# Altium integrated library Linear Technology Power Management Switching Regulator LT1074-LT8705.IntLib: 2252 symbols (part 104 of 148)
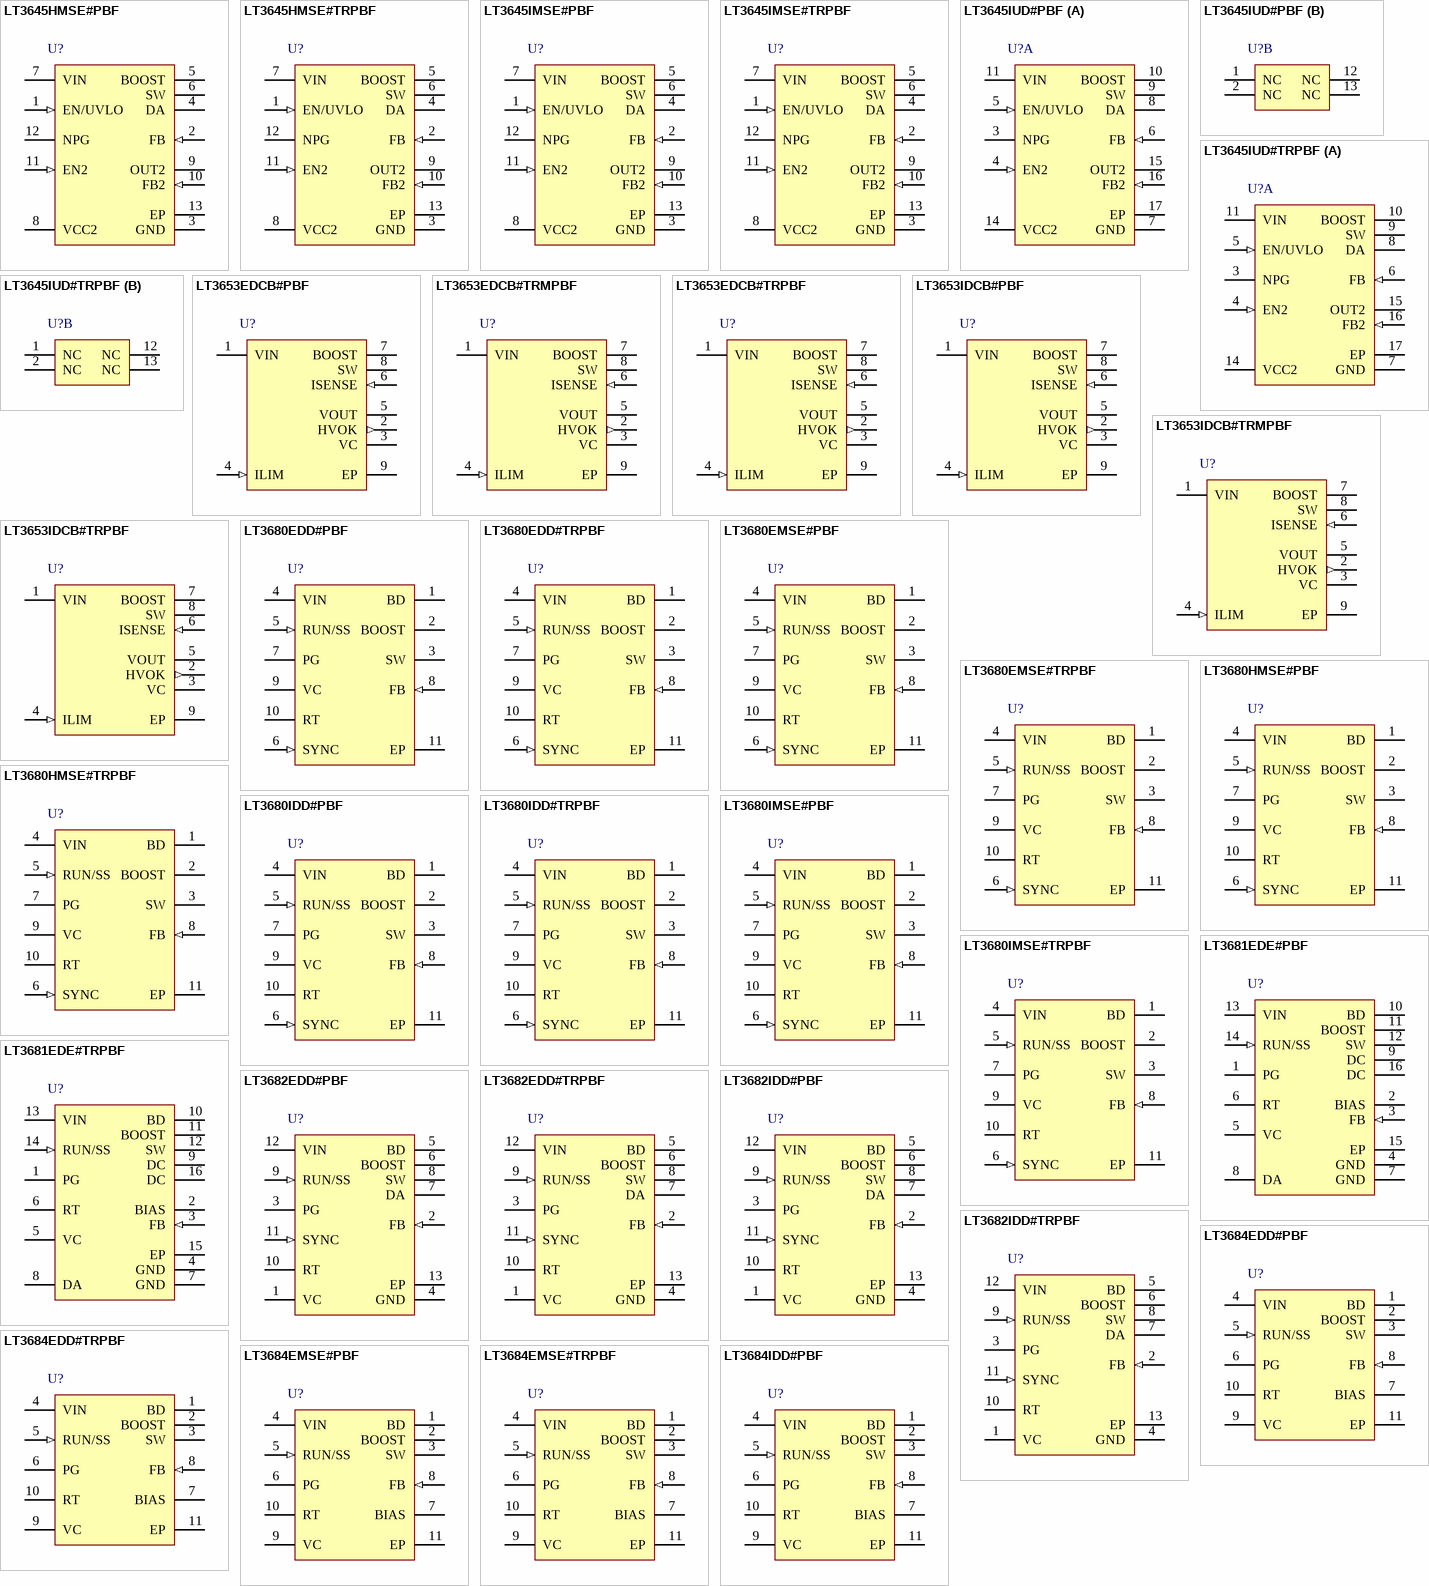
[diagram p174: symbols LT3645HMSE#PBF to LT3684IDD#PBF]

## LT3645IUD#TRPBF
designator U?
500 mA Step-Down Regulator and 200 mA LDO, 16-pin QFN (UD-16), -40 to 125 degC, Pb-Free, Tape and Reel; Manufacturer: Linear Technology; PartNumber: LT3645IUD#TRPBF; Number of Outputs: 2; Over Voltage Protection(V): 55; PackageVersion: Jun-10; PackageReference: UD-16; PackageDescription: 16-Pin Plastic QFN, Body 3 x 3 mm, Pitch 0.5 mm; Supplier 1: Digi-Key; Supplier Part Number 1: LT3645IUD#TRPBF-ND; Packing: Tape and Reel; RoHS: TRUE; Mounting Technology: Surface Mount; Code_JEDEC: MO-220; ComponentLink1Description: Manufacturer URL; ComponentLink1URL: http://www.linear.com/; ComponentLink2Description: Datasheet; ComponentLink2URL: http://cds.linear.com/docs/en/datasheet/3645f.pdf; ComponentLink3Description: Package Specification; ComponentLink3URL: http://cds.linear.com/docs/en/packaging/QFN_16_05-08-1691.pdf
footprint LT-UD-16_N (QFN, 16-Leads, Body 3x3mm, Pitch 0.5mm, Thermal Pad 1.45x1.45mm, IPC Medium Density)
footprint LT-UD-16_L (QFN, 16-Leads, Body 3x3mm, Pitch 0.5mm, Thermal Pad 1.45x1.45mm, IPC High Density)
footprint LT-UD-16_M (QFN, 16-Leads, Body 3x3mm, Pitch 0.5mm, Thermal Pad 1.45x1.45mm, IPC Low Density)
part A pins: 3 NPG (hiz) "The NPG pin is an open-collector output used to indicate that both buck and LDO output voltages are in regulation. The NPG pin pulls low when FB and FB2 both exceed 720mV.", 4 EN2 (in) "The EN2 pin is used to enable the linear regulator. Pull this pin above 1.6V to enable the LDO. Pull EN2 below 0.5V to disable the LDO.", 5 EN/UVLO (in) "The EN/UVLO pin is used to enable the buck switching regulator and the low dropout linear regulator (LDO). An accurate threshold of 1.23V allows the user to set the undervoltage lockout point with a simple resistor divider, (See Datasheet)", 6 FB (in) "The FB pin programs the buck output voltage. The LT3645 regulates the FB pin to 0.8V. The feedback resistor divider tap should be connected to this pin.", 7 GND (power) "The GND pin should be tied to a local ground plane below the LT3645 and the circuit components. Return the feedback dividers from FB and FB2 to this pin.", 8 DA "The DA pin senses the external catch diode current and prevents the buck regulator from switching if the sensed current is too high. Connect the anode of the external Schottky catch diode to this pin.", 9 SW (power) "The SW pin is the output of the internal buck power switch. Connect the inductor and the cathode of the external catch Schottky diode to this pin.", 10 BOOST "The BOOST pin provides a drive voltage to the internal bipolar NPN power switch. Tie a 0.1uF capacitor between the BOOST and SW pins.", 11 VIN (power) "The VIN pin supplies current to the LT3645’s internal circuitry, to the internal buck power switch, and to the LDO. The VIN pin must be locally bypassed.", 14 VCC2 (power) "The VCC2 pin supplies current to the linear regulator’s output device. The VCC2 pin is also the anode of an internal Schottky diode used to generate the BOOST voltage. The VCC2 pin must be tied to a voltage source greate(See Datasheet)", 15 OUT2 (power) "The OUT2 pin is the output of the LDO. Connect a capacitor of at least 0.47uF from this pin to ground. See Frequency Compensation (LDO) section for more details.", 16 FB2 (in) "The FB2 pin programs the LDO output voltage. The LT3645 regulates the FB2 pin to 0.797V. The feedback resistor divider tap should be connected to this pin.", 17 EP (power) "The GND pin should be tied to a local ground plane below the LT3645 and the circuit components. Return the feedback dividers from FB and FB2 to this pin. The exposed pad must be soldered to the PCB and electrically connected (See Datasheet)"
part B pins: 1 NC "No Connect Pins. Tie these to ground.", 2 NC "No Connect Pins. Tie these to ground.", 12 NC "No Connect Pins. Tie these to ground.", 13 NC "No Connect Pins. Tie these to ground."

## LT3653EDCB#PBF
designator U?
1.2 A, HV Input Regulator with Output Current Limit for Battery Charger Application, 8-pin SON (DCB-8), -40 to 125 degC, Pb-Free; Manufacturer: Linear Technology; PartNumber: LT3653EDCB#PBF; Number of Outputs: 1; Over Voltage Protection(V): 60; PackageVersion: Rev. A, 06/2010; PackageReference: DCB-8; PackageDescription: 8-Pin Plastic DFN, Body 2 x 3 mm, Pitch 0.45 mm; Supplier 1: Newark; Supplier Part Number 1: 78T4034; RoHS: TRUE; Mounting Technology: Surface Mount; ComponentLink1Description: Manufacturer URL; ComponentLink1URL: http://www.linear.com/; ComponentLink2Description: Datasheet; ComponentLink2URL: http://cds.linear.com/docs/en/datasheet/3653f.pdf; ComponentLink3Description: Package Specification; ComponentLink3URL: http://cds.linear.com/docs/en/packaging/DFN_8_05-08-1718.pdf
footprint LT-DCB-8_V (SON, 8-Leads, Body 3x2mm, Pitch 0.45mm, Thermal Pad 1.65x1.35mm)
pins: 1 VIN (power) "The VIN pin supplies current to the LT3653’s internal regulator and the internal power switch. Locally bypass this pin with a capacitor.", 2 HVOK (out) "The HVOK pin is a status pin which indicates that the internal bias rail is present and that an input undervoltage lockout fault, an overvoltage lockout fault or an over temperature fault are not present.", 3 VC "The VC pin is the output of the internal error amplifier and is internally compensated. The voltage on this pin controls the peak switch current. Connect this pin to the battery charger VC pin for battery tracking function.", 4 ILIM (in) "Connect a resistor to GND to program the output current limit of the regulator. See the ILIM Resistor section in Application Information.", 5 VOUT (power) "The VOUT pin is connected to the negative terminal of the internal current sense resistor of the output current limit circuit. Maximum VOUT voltage is regulated to 4.8V.", 6 ISENSE (in) "The ISENSE pin is the positive input to the internal current sense resistor of the output current limit circuit. The ISENSE pin is also the anode of the internal BOOST diode.", 7 BOOST "The BOOST pin provides a drive voltage, higher than the input voltage, to the internal power switch. The BOOST pin is internally connected to the cathode of the BOOST diode.", 8 SW (power) "The SW pin is the output of the internal power switch. Connect this pin to the inductor, catch diode and boost capacitor.", 9 EP (power) "Ground. The Exposed Pad must be soldered to the PCB and electrically connected to ground. Use a large ground plane and vias to optimize thermal performance."

## LT3653EDCB#TRMPBF
designator U?
1.2 A, HV Input Regulator with Output Current Limit for Battery Charger Application, 8-pin SON (DCB-8), -40 to 125 degC, Pb-Free, Mini Tape and Reel; Manufacturer: Linear Technology; PartNumber: LT3653EDCB#TRMPBF; Number of Outputs: 1; Over Voltage Protection(V): 60; PackageVersion: Rev. A, 06/2010; PackageReference: DCB-8; PackageDescription: 8-Pin Plastic DFN, Body 2 x 3 mm, Pitch 0.45 mm; Supplier 1: Digi-Key; Supplier Part Number 1: LT3653EDCB#TRMPBFTR-ND; Supplier 2: Digi-Key; Supplier Part Number 2: LT3653EDCB#TRMPBFCT-ND; Supplier 3: Digi-Key; Supplier Part Number 3: LT3653EDCB#TRMPBFDKR-ND; Packing: Mini Tape and Reel; RoHS: TRUE; Mounting Technology: Surface Mount; ComponentLink1Description: Manufacturer URL; ComponentLink1URL: http://www.linear.com/; ComponentLink2Description: Datasheet; ComponentLink2URL: http://cds.linear.com/docs/en/datasheet/3653f.pdf; ComponentLink3Description: Package Specification; ComponentLink3URL: http://cds.linear.com/docs/en/packaging/DFN_8_05-08-1718.pdf
footprint LT-DCB-8_V (SON, 8-Leads, Body 3x2mm, Pitch 0.45mm, Thermal Pad 1.65x1.35mm)
pins: 1 VIN (power) "The VIN pin supplies current to the LT3653’s internal regulator and the internal power switch. Locally bypass this pin with a capacitor.", 2 HVOK (out) "The HVOK pin is a status pin which indicates that the internal bias rail is present and that an input undervoltage lockout fault, an overvoltage lockout fault or an over temperature fault are not present.", 3 VC "The VC pin is the output of the internal error amplifier and is internally compensated. The voltage on this pin controls the peak switch current. Connect this pin to the battery charger VC pin for battery tracking function.", 4 ILIM (in) "Connect a resistor to GND to program the output current limit of the regulator. See the ILIM Resistor section in Application Information.", 5 VOUT (power) "The VOUT pin is connected to the negative terminal of the internal current sense resistor of the output current limit circuit. Maximum VOUT voltage is regulated to 4.8V.", 6 ISENSE (in) "The ISENSE pin is the positive input to the internal current sense resistor of the output current limit circuit. The ISENSE pin is also the anode of the internal BOOST diode.", 7 BOOST "The BOOST pin provides a drive voltage, higher than the input voltage, to the internal power switch. The BOOST pin is internally connected to the cathode of the BOOST diode.", 8 SW (power) "The SW pin is the output of the internal power switch. Connect this pin to the inductor, catch diode and boost capacitor.", 9 EP (power) "Ground. The Exposed Pad must be soldered to the PCB and electrically connected to ground. Use a large ground plane and vias to optimize thermal performance."

## LT3653EDCB#TRPBF
designator U?
1.2 A, HV Input Regulator with Output Current Limit for Battery Charger Application, 8-pin SON (DCB-8), -40 to 125 degC, Pb-Free, Tape and Reel; Manufacturer: Linear Technology; PartNumber: LT3653EDCB#TRPBF; Number of Outputs: 1; Over Voltage Protection(V): 60; PackageVersion: Rev. A, 06/2010; PackageReference: DCB-8; PackageDescription: 8-Pin Plastic DFN, Body 2 x 3 mm, Pitch 0.45 mm; Supplier 1: Digi-Key; Supplier Part Number 1: LT3653EDCB#TRPBF-ND; Packing: Tape and Reel; RoHS: TRUE; Mounting Technology: Surface Mount; ComponentLink1Description: Manufacturer URL; ComponentLink1URL: http://www.linear.com/; ComponentLink2Description: Datasheet; ComponentLink2URL: http://cds.linear.com/docs/en/datasheet/3653f.pdf; ComponentLink3Description: Package Specification; ComponentLink3URL: http://cds.linear.com/docs/en/packaging/DFN_8_05-08-1718.pdf
footprint LT-DCB-8_V (SON, 8-Leads, Body 3x2mm, Pitch 0.45mm, Thermal Pad 1.65x1.35mm)
pins: 1 VIN (power) "The VIN pin supplies current to the LT3653’s internal regulator and the internal power switch. Locally bypass this pin with a capacitor.", 2 HVOK (out) "The HVOK pin is a status pin which indicates that the internal bias rail is present and that an input undervoltage lockout fault, an overvoltage lockout fault or an over temperature fault are not present.", 3 VC "The VC pin is the output of the internal error amplifier and is internally compensated. The voltage on this pin controls the peak switch current. Connect this pin to the battery charger VC pin for battery tracking function.", 4 ILIM (in) "Connect a resistor to GND to program the output current limit of the regulator. See the ILIM Resistor section in Application Information.", 5 VOUT (power) "The VOUT pin is connected to the negative terminal of the internal current sense resistor of the output current limit circuit. Maximum VOUT voltage is regulated to 4.8V.", 6 ISENSE (in) "The ISENSE pin is the positive input to the internal current sense resistor of the output current limit circuit. The ISENSE pin is also the anode of the internal BOOST diode.", 7 BOOST "The BOOST pin provides a drive voltage, higher than the input voltage, to the internal power switch. The BOOST pin is internally connected to the cathode of the BOOST diode.", 8 SW (power) "The SW pin is the output of the internal power switch. Connect this pin to the inductor, catch diode and boost capacitor.", 9 EP (power) "Ground. The Exposed Pad must be soldered to the PCB and electrically connected to ground. Use a large ground plane and vias to optimize thermal performance."

## LT3653IDCB#PBF
designator U?
1.2 A, HV Input Regulator with Output Current Limit for Battery Charger Application, 8-pin SON (DCB-8), -40 to 125 degC, Pb-Free; Manufacturer: Linear Technology; PartNumber: LT3653IDCB#PBF; Number of Outputs: 1; Over Voltage Protection(V): 60; PackageVersion: Rev. A, 06/2010; PackageReference: DCB-8; PackageDescription: 8-Pin Plastic DFN, Body 2 x 3 mm, Pitch 0.45 mm; RoHS: TRUE; Mounting Technology: Surface Mount; ComponentLink1Description: Manufacturer URL; ComponentLink1URL: http://www.linear.com/; ComponentLink2Description: Datasheet; ComponentLink2URL: http://cds.linear.com/docs/en/datasheet/3653f.pdf; ComponentLink3Description: Package Specification; ComponentLink3URL: http://cds.linear.com/docs/en/packaging/DFN_8_05-08-1718.pdf
footprint LT-DCB-8_V (SON, 8-Leads, Body 3x2mm, Pitch 0.45mm, Thermal Pad 1.65x1.35mm)
pins: 1 VIN (power) "The VIN pin supplies current to the LT3653’s internal regulator and the internal power switch. Locally bypass this pin with a capacitor.", 2 HVOK (out) "The HVOK pin is a status pin which indicates that the internal bias rail is present and that an input undervoltage lockout fault, an overvoltage lockout fault or an over temperature fault are not present.", 3 VC "The VC pin is the output of the internal error amplifier and is internally compensated. The voltage on this pin controls the peak switch current. Connect this pin to the battery charger VC pin for battery tracking function.", 4 ILIM (in) "Connect a resistor to GND to program the output current limit of the regulator. See the ILIM Resistor section in Application Information.", 5 VOUT (power) "The VOUT pin is connected to the negative terminal of the internal current sense resistor of the output current limit circuit. Maximum VOUT voltage is regulated to 4.8V.", 6 ISENSE (in) "The ISENSE pin is the positive input to the internal current sense resistor of the output current limit circuit. The ISENSE pin is also the anode of the internal BOOST diode.", 7 BOOST "The BOOST pin provides a drive voltage, higher than the input voltage, to the internal power switch. The BOOST pin is internally connected to the cathode of the BOOST diode.", 8 SW (power) "The SW pin is the output of the internal power switch. Connect this pin to the inductor, catch diode and boost capacitor.", 9 EP (power) "Ground. The Exposed Pad must be soldered to the PCB and electrically connected to ground. Use a large ground plane and vias to optimize thermal performance."

## LT3653IDCB#TRMPBF
designator U?
1.2 A, HV Input Regulator with Output Current Limit for Battery Charger Application, 8-pin SON (DCB-8), -40 to 125 degC, Pb-Free, Mini Tape and Reel; Manufacturer: Linear Technology; PartNumber: LT3653IDCB#TRMPBF; Number of Outputs: 1; Over Voltage Protection(V): 60; PackageVersion: Rev. A, 06/2010; PackageReference: DCB-8; PackageDescription: 8-Pin Plastic DFN, Body 2 x 3 mm, Pitch 0.45 mm; Supplier 1: Digi-Key; Supplier Part Number 1: LT3653IDCB#TRMPBFTR-ND; Supplier 2: Digi-Key; Supplier Part Number 2: LT3653IDCB#TRMPBFCT-ND; Supplier 3: Digi-Key; Supplier Part Number 3: LT3653IDCB#TRMPBFDKR-ND; Packing: Mini Tape and Reel; RoHS: TRUE; Mounting Technology: Surface Mount; ComponentLink1Description: Manufacturer URL; ComponentLink1URL: http://www.linear.com/; ComponentLink2Description: Datasheet; ComponentLink2URL: http://cds.linear.com/docs/en/datasheet/3653f.pdf; ComponentLink3Description: Package Specification; ComponentLink3URL: http://cds.linear.com/docs/en/packaging/DFN_8_05-08-1718.pdf
footprint LT-DCB-8_V (SON, 8-Leads, Body 3x2mm, Pitch 0.45mm, Thermal Pad 1.65x1.35mm)
pins: 1 VIN (power) "The VIN pin supplies current to the LT3653’s internal regulator and the internal power switch. Locally bypass this pin with a capacitor.", 2 HVOK (out) "The HVOK pin is a status pin which indicates that the internal bias rail is present and that an input undervoltage lockout fault, an overvoltage lockout fault or an over temperature fault are not present.", 3 VC "The VC pin is the output of the internal error amplifier and is internally compensated. The voltage on this pin controls the peak switch current. Connect this pin to the battery charger VC pin for battery tracking function.", 4 ILIM (in) "Connect a resistor to GND to program the output current limit of the regulator. See the ILIM Resistor section in Application Information.", 5 VOUT (power) "The VOUT pin is connected to the negative terminal of the internal current sense resistor of the output current limit circuit. Maximum VOUT voltage is regulated to 4.8V.", 6 ISENSE (in) "The ISENSE pin is the positive input to the internal current sense resistor of the output current limit circuit. The ISENSE pin is also the anode of the internal BOOST diode.", 7 BOOST "The BOOST pin provides a drive voltage, higher than the input voltage, to the internal power switch. The BOOST pin is internally connected to the cathode of the BOOST diode.", 8 SW (power) "The SW pin is the output of the internal power switch. Connect this pin to the inductor, catch diode and boost capacitor.", 9 EP (power) "Ground. The Exposed Pad must be soldered to the PCB and electrically connected to ground. Use a large ground plane and vias to optimize thermal performance."

## LT3653IDCB#TRPBF
designator U?
1.2 A, HV Input Regulator with Output Current Limit for Battery Charger Application, 8-pin SON (DCB-8), -40 to 125 degC, Pb-Free, Tape and Reel; Manufacturer: Linear Technology; PartNumber: LT3653IDCB#TRPBF; Number of Outputs: 1; Over Voltage Protection(V): 60; PackageVersion: Rev. A, 06/2010; PackageReference: DCB-8; PackageDescription: 8-Pin Plastic DFN, Body 2 x 3 mm, Pitch 0.45 mm; Supplier 1: Digi-Key; Supplier Part Number 1: LT3653IDCB#TRPBF-ND; Packing: Tape and Reel; RoHS: TRUE; Mounting Technology: Surface Mount; ComponentLink1Description: Manufacturer URL; ComponentLink1URL: http://www.linear.com/; ComponentLink2Description: Datasheet; ComponentLink2URL: http://cds.linear.com/docs/en/datasheet/3653f.pdf; ComponentLink3Description: Package Specification; ComponentLink3URL: http://cds.linear.com/docs/en/packaging/DFN_8_05-08-1718.pdf
footprint LT-DCB-8_V (SON, 8-Leads, Body 3x2mm, Pitch 0.45mm, Thermal Pad 1.65x1.35mm)
pins: 1 VIN (power) "The VIN pin supplies current to the LT3653’s internal regulator and the internal power switch. Locally bypass this pin with a capacitor.", 2 HVOK (out) "The HVOK pin is a status pin which indicates that the internal bias rail is present and that an input undervoltage lockout fault, an overvoltage lockout fault or an over temperature fault are not present.", 3 VC "The VC pin is the output of the internal error amplifier and is internally compensated. The voltage on this pin controls the peak switch current. Connect this pin to the battery charger VC pin for battery tracking function.", 4 ILIM (in) "Connect a resistor to GND to program the output current limit of the regulator. See the ILIM Resistor section in Application Information.", 5 VOUT (power) "The VOUT pin is connected to the negative terminal of the internal current sense resistor of the output current limit circuit. Maximum VOUT voltage is regulated to 4.8V.", 6 ISENSE (in) "The ISENSE pin is the positive input to the internal current sense resistor of the output current limit circuit. The ISENSE pin is also the anode of the internal BOOST diode.", 7 BOOST "The BOOST pin provides a drive voltage, higher than the input voltage, to the internal power switch. The BOOST pin is internally connected to the cathode of the BOOST diode.", 8 SW (power) "The SW pin is the output of the internal power switch. Connect this pin to the inductor, catch diode and boost capacitor.", 9 EP (power) "Ground. The Exposed Pad must be soldered to the PCB and electrically connected to ground. Use a large ground plane and vias to optimize thermal performance."

## LT3680EDD#PBF
designator U?
3.5 A, 2.4 MHz Step-Down Switching Regulator with 75 uA Quiescent Current, 10-pin SON (DD-10), -40 to 125 degC, Pb-Free; Manufacturer: Linear Technology; PartNumber: LT3680EDD#PBF; Frequency Adjust Range: 200kHz - 2.4MHz; Number of Outputs: 1; DatasheetVersion: Rev. B; PackageVersion: Rev. C, 06/2010; PackageReference: DD-10; PackageDescription: 10-Pin Plastic DFN, Body 3 x 3 mm, Pitch 0.5 mm; Supplier 1: Digi-Key; Supplier Part Number 1: LT3680EDD#PBF-ND; Supplier 2: Farnell; Supplier Part Number 2: 1432696; Supplier 3: Newark; Supplier Part Number 3: 57M8542; RoHS: TRUE; Mounting Technology: Surface Mount; Code_JEDEC: MO-229; ComponentLink1Description: Manufacturer URL; ComponentLink1URL: http://www.linear.com/; ComponentLink2Description: Datasheet; ComponentLink2URL: http://cds.linear.com/docs/en/datasheet/3680fb.pdf; ComponentLink3Description: Package Specification; ComponentLink3URL: http://cds.linear.com/docs/en/packaging/DFN_10_05-08-1699.pdf
footprint LT-DD-10_V (SON, 10-Leads, Body 3x3mm, Pitch 0.5mm, Thermal Pad 2.38x1.65mm)
pins: 1 BD (power) "This pin connects to the anode of the boost Schottky diode. BD also supplies current to the internal regulator.", 2 BOOST "This pin is used to provide a drive voltage, higher than the input voltage, to the internal bipolar NPN power switch.", 3 SW (power) "The SW pin is the output of the internal power switch. Connect this pin to the inductor, catch diode and boost capacitor.", 4 VIN (power) "The VIN pin supplies current to internal regulator and to the internal power switch. This pin must be locally bypassed.", 5 RUN/SS (in) "If the shutdown feature is not used, tie this pin to the VIN pin. RUN/SS also provides a soft-start function; see the Applications Information section.", 6 SYNC (in) "This is the external clock synchronization input. Ground this pin for low ripple Burst Mode operation at low output loads. Tie to a clock source for synchronization. Clock edges should have rise and fall times faster than (See Datasheet)", 7 PG (oc) "The PG pin is the open collector output of an internal comparator. PG remains low until the FB pin is within 9% of the final regulation voltage. PG output is valid when VIN is above 3.6V and RUN/SS is high.", 8 FB (in) "Connect the feedback resistor divider tap to this pin.", 9 VC "The VC pin is the output of the internal error amplifier. The voltage on this pin controls the peak switch current. Tie an RC network from this pin to ground to compensate the control loop.", 10 RT "Oscillator Resistor Input. Connecting a resistor to ground from this pin sets the switching frequency.", 11 EP (power) "Ground. The Exposed Pad must be soldered to PCB."

## LT3680EDD#TRPBF
designator U?
3.5 A, 2.4 MHz Step-Down Switching Regulator with 75 uA Quiescent Current, 10-pin SON (DD-10), -40 to 125 degC, Pb-Free, Tape and Reel; Manufacturer: Linear Technology; PartNumber: LT3680EDD#TRPBF; Frequency Adjust Range: 200kHz - 2.4MHz; Number of Outputs: 1; DatasheetVersion: Rev. B; PackageVersion: Rev. C, 06/2010; PackageReference: DD-10; PackageDescription: 10-Pin Plastic DFN, Body 3 x 3 mm, Pitch 0.5 mm; Supplier 1: Digi-Key; Supplier Part Number 1: LT3680EDD#TRPBF-ND; Supplier 2: Newark; Supplier Part Number 2: 57M8543; Packing: Tape and Reel; RoHS: TRUE; Mounting Technology: Surface Mount; Code_JEDEC: MO-229; ComponentLink1Description: Manufacturer URL; ComponentLink1URL: http://www.linear.com/; ComponentLink2Description: Datasheet; ComponentLink2URL: http://cds.linear.com/docs/en/datasheet/3680fb.pdf; ComponentLink3Description: Package Specification; ComponentLink3URL: http://cds.linear.com/docs/en/packaging/DFN_10_05-08-1699.pdf
footprint LT-DD-10_V (SON, 10-Leads, Body 3x3mm, Pitch 0.5mm, Thermal Pad 2.38x1.65mm)
pins: 1 BD (power) "This pin connects to the anode of the boost Schottky diode. BD also supplies current to the internal regulator.", 2 BOOST "This pin is used to provide a drive voltage, higher than the input voltage, to the internal bipolar NPN power switch.", 3 SW (power) "The SW pin is the output of the internal power switch. Connect this pin to the inductor, catch diode and boost capacitor.", 4 VIN (power) "The VIN pin supplies current to internal regulator and to the internal power switch. This pin must be locally bypassed.", 5 RUN/SS (in) "If the shutdown feature is not used, tie this pin to the VIN pin. RUN/SS also provides a soft-start function; see the Applications Information section.", 6 SYNC (in) "This is the external clock synchronization input. Ground this pin for low ripple Burst Mode operation at low output loads. Tie to a clock source for synchronization. Clock edges should have rise and fall times faster than (See Datasheet)", 7 PG (oc) "The PG pin is the open collector output of an internal comparator. PG remains low until the FB pin is within 9% of the final regulation voltage. PG output is valid when VIN is above 3.6V and RUN/SS is high.", 8 FB (in) "Connect the feedback resistor divider tap to this pin.", 9 VC "The VC pin is the output of the internal error amplifier. The voltage on this pin controls the peak switch current. Tie an RC network from this pin to ground to compensate the control loop.", 10 RT "Oscillator Resistor Input. Connecting a resistor to ground from this pin sets the switching frequency.", 11 EP (power) "Ground. The Exposed Pad must be soldered to PCB."

## LT3680EMSE#PBF
designator U?
3.5 A, 2.4 MHz Step-Down Switching Regulator with 75 uA Quiescent Current, 10-pin SOP (MSE-10-EDP), -40 to 125 degC, Pb-Free; Manufacturer: Linear Technology; PartNumber: LT3680EMSE#PBF; Frequency Adjust Range: 200kHz - 2.4MHz; Number of Outputs: 1; DatasheetVersion: Rev. B; PackageVersion: Rev. C, 08/2009; PackageReference: MSE-10; PackageDescription: 10-Pin Plastic MSOP, Exposed Die Pad, Body 3 x 3 mm, Pitch 0.5 mm; Supplier 1: Digi-Key; Supplier Part Number 1: LT3680EMSE#PBF-ND; Supplier 2: Farnell; Supplier Part Number 2: 1432697; Supplier 3: Newark; Supplier Part Number 3: 57M8544; RoHS: TRUE; Mounting Technology: Surface Mount; ComponentLink1Description: Manufacturer URL; ComponentLink1URL: http://www.linear.com/; ComponentLink2Description: Datasheet; ComponentLink2URL: http://cds.linear.com/docs/en/datasheet/3680fb.pdf; ComponentLink3Description: Package Specification; ComponentLink3URL: http://cds.linear.com/docs/en/datasheet/3481fc.pdf
footprint LT-MSE-10-EDP-2060x1830TP_N (SOP, 10-Leads, Body 3.1x3.1mm, Pitch 0.5mm, Thermal Pad 2.17x1.94mm, IPC Medium Density)
footprint LT-MSE-10-EDP-2060x1830TP_L (SOP, 10-Leads, Body 3.1x3.1mm, Pitch 0.5mm, Thermal Pad 2.17x1.94mm, IPC High Density)
footprint LT-MSE-10-EDP-2060x1830TP_M (SOP, 10-Leads, Body 3.1x3.1mm, Pitch 0.5mm, Thermal Pad 2.17x1.94mm, IPC Low Density)
pins: 1 BD (power) "This pin connects to the anode of the boost Schottky diode. BD also supplies current to the internal regulator.", 2 BOOST "This pin is used to provide a drive voltage, higher than the input voltage, to the internal bipolar NPN power switch.", 3 SW (power) "The SW pin is the output of the internal power switch. Connect this pin to the inductor, catch diode and boost capacitor.", 4 VIN (power) "The VIN pin supplies current to internal regulator and to the internal power switch. This pin must be locally bypassed.", 5 RUN/SS (in) "If the shutdown feature is not used, tie this pin to the VIN pin. RUN/SS also provides a soft-start function; see the Applications Information section.", 6 SYNC (in) "This is the external clock synchronization input. Ground this pin for low ripple Burst Mode operation at low output loads. Tie to a clock source for synchronization. Clock edges should have rise and fall times faster than (See Datasheet)", 7 PG (oc) "The PG pin is the open collector output of an internal comparator. PG remains low until the FB pin is within 9% of the final regulation voltage. PG output is valid when VIN is above 3.6V and RUN/SS is high.", 8 FB (in) "Connect the feedback resistor divider tap to this pin.", 9 VC "The VC pin is the output of the internal error amplifier. The voltage on this pin controls the peak switch current. Tie an RC network from this pin to ground to compensate the control loop.", 10 RT "Oscillator Resistor Input. Connecting a resistor to ground from this pin sets the switching frequency.", 11 EP (power) "Ground. The Exposed Pad must be soldered to PCB."

## LT3680EMSE#TRPBF
designator U?
3.5 A, 2.4 MHz Step-Down Switching Regulator with 75 uA Quiescent Current, 10-pin SOP (MSE-10-EDP), -40 to 125 degC, Pb-Free, Tape and Reel; Manufacturer: Linear Technology; PartNumber: LT3680EMSE#TRPBF; Frequency Adjust Range: 200kHz - 2.4MHz; Number of Outputs: 1; DatasheetVersion: Rev. B; PackageVersion: Rev. C, 08/2009; PackageReference: MSE-10; PackageDescription: 10-Pin Plastic MSOP, Exposed Die Pad, Body 3 x 3 mm, Pitch 0.5 mm; Supplier 1: Digi-Key; Supplier Part Number 1: LT3680EMSE#TRPBFTR-ND; Supplier 2: Digi-Key; Supplier Part Number 2: LT3680EMSE#TRPBFCT-ND; Supplier 3: Digi-Key; Supplier Part Number 3: LT3680EMSE#TRPBFDKR-ND; Supplier 4: Newark; Supplier Part Number 4: 57M8545; Packing: Tape and Reel; RoHS: TRUE; Mounting Technology: Surface Mount; ComponentLink1Description: Manufacturer URL; ComponentLink1URL: http://www.linear.com/; ComponentLink2Description: Datasheet; ComponentLink2URL: http://cds.linear.com/docs/en/datasheet/3680fb.pdf; ComponentLink3Description: Package Specification; ComponentLink3URL: http://cds.linear.com/docs/en/datasheet/3481fc.pdf
footprint LT-MSE-10-EDP-2060x1830TP_N (SOP, 10-Leads, Body 3.1x3.1mm, Pitch 0.5mm, Thermal Pad 2.17x1.94mm, IPC Medium Density)
footprint LT-MSE-10-EDP-2060x1830TP_L (SOP, 10-Leads, Body 3.1x3.1mm, Pitch 0.5mm, Thermal Pad 2.17x1.94mm, IPC High Density)
footprint LT-MSE-10-EDP-2060x1830TP_M (SOP, 10-Leads, Body 3.1x3.1mm, Pitch 0.5mm, Thermal Pad 2.17x1.94mm, IPC Low Density)
pins: 1 BD (power) "This pin connects to the anode of the boost Schottky diode. BD also supplies current to the internal regulator.", 2 BOOST "This pin is used to provide a drive voltage, higher than the input voltage, to the internal bipolar NPN power switch.", 3 SW (power) "The SW pin is the output of the internal power switch. Connect this pin to the inductor, catch diode and boost capacitor.", 4 VIN (power) "The VIN pin supplies current to internal regulator and to the internal power switch. This pin must be locally bypassed.", 5 RUN/SS (in) "If the shutdown feature is not used, tie this pin to the VIN pin. RUN/SS also provides a soft-start function; see the Applications Information section.", 6 SYNC (in) "This is the external clock synchronization input. Ground this pin for low ripple Burst Mode operation at low output loads. Tie to a clock source for synchronization. Clock edges should have rise and fall times faster than (See Datasheet)", 7 PG (oc) "The PG pin is the open collector output of an internal comparator. PG remains low until the FB pin is within 9% of the final regulation voltage. PG output is valid when VIN is above 3.6V and RUN/SS is high.", 8 FB (in) "Connect the feedback resistor divider tap to this pin.", 9 VC "The VC pin is the output of the internal error amplifier. The voltage on this pin controls the peak switch current. Tie an RC network from this pin to ground to compensate the control loop.", 10 RT "Oscillator Resistor Input. Connecting a resistor to ground from this pin sets the switching frequency.", 11 EP (power) "Ground. The Exposed Pad must be soldered to PCB."

## LT3680HMSE#PBF
designator U?
3.5 A, 2.4 MHz Step-Down Switching Regulator with 75 uA Quiescent Current, 10-pin SOP (MSE-10-EDP), -40 to 150 degC, Pb-Free; Manufacturer: Linear Technology; PartNumber: LT3680HMSE#PBF; Frequency Adjust Range: 200kHz - 2.4MHz; Number of Outputs: 1; DatasheetVersion: Rev. B; PackageVersion: Rev. C, 08/2009; PackageReference: MSE-10; PackageDescription: 10-Pin Plastic MSOP, Exposed Die Pad, Body 3 x 3 mm, Pitch 0.5 mm; Supplier 1: Digi-Key; Supplier Part Number 1: LT3680HMSE#PBF-ND; Supplier 2: Newark; Supplier Part Number 2: 15R3756; RoHS: TRUE; Mounting Technology: Surface Mount; ComponentLink1Description: Manufacturer URL; ComponentLink1URL: http://www.linear.com/; ComponentLink2Description: Datasheet; ComponentLink2URL: http://cds.linear.com/docs/en/datasheet/3680fb.pdf; ComponentLink3Description: Package Specification; ComponentLink3URL: http://cds.linear.com/docs/en/datasheet/3481fc.pdf
footprint LT-MSE-10-EDP-2060x1830TP_N (SOP, 10-Leads, Body 3.1x3.1mm, Pitch 0.5mm, Thermal Pad 2.17x1.94mm, IPC Medium Density)
footprint LT-MSE-10-EDP-2060x1830TP_L (SOP, 10-Leads, Body 3.1x3.1mm, Pitch 0.5mm, Thermal Pad 2.17x1.94mm, IPC High Density)
footprint LT-MSE-10-EDP-2060x1830TP_M (SOP, 10-Leads, Body 3.1x3.1mm, Pitch 0.5mm, Thermal Pad 2.17x1.94mm, IPC Low Density)
pins: 1 BD (power) "This pin connects to the anode of the boost Schottky diode. BD also supplies current to the internal regulator.", 2 BOOST "This pin is used to provide a drive voltage, higher than the input voltage, to the internal bipolar NPN power switch.", 3 SW (power) "The SW pin is the output of the internal power switch. Connect this pin to the inductor, catch diode and boost capacitor.", 4 VIN (power) "The VIN pin supplies current to internal regulator and to the internal power switch. This pin must be locally bypassed.", 5 RUN/SS (in) "If the shutdown feature is not used, tie this pin to the VIN pin. RUN/SS also provides a soft-start function; see the Applications Information section.", 6 SYNC (in) "This is the external clock synchronization input. Ground this pin for low ripple Burst Mode operation at low output loads. Tie to a clock source for synchronization. Clock edges should have rise and fall times faster than (See Datasheet)", 7 PG (oc) "The PG pin is the open collector output of an internal comparator. PG remains low until the FB pin is within 9% of the final regulation voltage. PG output is valid when VIN is above 3.6V and RUN/SS is high.", 8 FB (in) "Connect the feedback resistor divider tap to this pin.", 9 VC "The VC pin is the output of the internal error amplifier. The voltage on this pin controls the peak switch current. Tie an RC network from this pin to ground to compensate the control loop.", 10 RT "Oscillator Resistor Input. Connecting a resistor to ground from this pin sets the switching frequency.", 11 EP (power) "Ground. The Exposed Pad must be soldered to PCB."

## LT3680HMSE#TRPBF
designator U?
3.5 A, 2.4 MHz Step-Down Switching Regulator with 75 uA Quiescent Current, 10-pin SOP (MSE-10-EDP), -40 to 150 degC, Pb-Free, Tape and Reel; Manufacturer: Linear Technology; PartNumber: LT3680HMSE#TRPBF; Frequency Adjust Range: 200kHz - 2.4MHz; Number of Outputs: 1; DatasheetVersion: Rev. B; PackageVersion: Rev. C, 08/2009; PackageReference: MSE-10; PackageDescription: 10-Pin Plastic MSOP, Exposed Die Pad, Body 3 x 3 mm, Pitch 0.5 mm; Supplier 1: Digi-Key; Supplier Part Number 1: LT3680HMSE#TRPBF-ND; Packing: Tape and Reel; RoHS: TRUE; Mounting Technology: Surface Mount; ComponentLink1Description: Manufacturer URL; ComponentLink1URL: http://www.linear.com/; ComponentLink2Description: Datasheet; ComponentLink2URL: http://cds.linear.com/docs/en/datasheet/3680fb.pdf; ComponentLink3Description: Package Specification; ComponentLink3URL: http://cds.linear.com/docs/en/datasheet/3481fc.pdf
footprint LT-MSE-10-EDP-2060x1830TP_N (SOP, 10-Leads, Body 3.1x3.1mm, Pitch 0.5mm, Thermal Pad 2.17x1.94mm, IPC Medium Density)
footprint LT-MSE-10-EDP-2060x1830TP_L (SOP, 10-Leads, Body 3.1x3.1mm, Pitch 0.5mm, Thermal Pad 2.17x1.94mm, IPC High Density)
footprint LT-MSE-10-EDP-2060x1830TP_M (SOP, 10-Leads, Body 3.1x3.1mm, Pitch 0.5mm, Thermal Pad 2.17x1.94mm, IPC Low Density)
pins: 1 BD (power) "This pin connects to the anode of the boost Schottky diode. BD also supplies current to the internal regulator.", 2 BOOST "This pin is used to provide a drive voltage, higher than the input voltage, to the internal bipolar NPN power switch.", 3 SW (power) "The SW pin is the output of the internal power switch. Connect this pin to the inductor, catch diode and boost capacitor.", 4 VIN (power) "The VIN pin supplies current to internal regulator and to the internal power switch. This pin must be locally bypassed.", 5 RUN/SS (in) "If the shutdown feature is not used, tie this pin to the VIN pin. RUN/SS also provides a soft-start function; see the Applications Information section.", 6 SYNC (in) "This is the external clock synchronization input. Ground this pin for low ripple Burst Mode operation at low output loads. Tie to a clock source for synchronization. Clock edges should have rise and fall times faster than (See Datasheet)", 7 PG (oc) "The PG pin is the open collector output of an internal comparator. PG remains low until the FB pin is within 9% of the final regulation voltage. PG output is valid when VIN is above 3.6V and RUN/SS is high.", 8 FB (in) "Connect the feedback resistor divider tap to this pin.", 9 VC "The VC pin is the output of the internal error amplifier. The voltage on this pin controls the peak switch current. Tie an RC network from this pin to ground to compensate the control loop.", 10 RT "Oscillator Resistor Input. Connecting a resistor to ground from this pin sets the switching frequency.", 11 EP (power) "Ground. The Exposed Pad must be soldered to PCB."

## LT3680IDD#PBF
designator U?
3.5 A, 2.4 MHz Step-Down Switching Regulator with 75 uA Quiescent Current, 10-pin SON (DD-10), -40 to 125 degC, Pb-Free; Manufacturer: Linear Technology; PartNumber: LT3680IDD#PBF; Frequency Adjust Range: 200kHz - 2.4MHz; Number of Outputs: 1; DatasheetVersion: Rev. B; PackageVersion: Rev. C, 06/2010; PackageReference: DD-10; PackageDescription: 10-Pin Plastic DFN, Body 3 x 3 mm, Pitch 0.5 mm; Supplier 1: Digi-Key; Supplier Part Number 1: LT3680IDD#PBF-ND; Supplier 2: Farnell; Supplier Part Number 2: 1432698; Supplier 3: Newark; Supplier Part Number 3: 57M8546; RoHS: TRUE; Mounting Technology: Surface Mount; Code_JEDEC: MO-229; ComponentLink1Description: Manufacturer URL; ComponentLink1URL: http://www.linear.com/; ComponentLink2Description: Datasheet; ComponentLink2URL: http://cds.linear.com/docs/en/datasheet/3680fb.pdf; ComponentLink3Description: Package Specification; ComponentLink3URL: http://cds.linear.com/docs/en/packaging/DFN_10_05-08-1699.pdf
footprint LT-DD-10_V (SON, 10-Leads, Body 3x3mm, Pitch 0.5mm, Thermal Pad 2.38x1.65mm)
pins: 1 BD (power) "This pin connects to the anode of the boost Schottky diode. BD also supplies current to the internal regulator.", 2 BOOST "This pin is used to provide a drive voltage, higher than the input voltage, to the internal bipolar NPN power switch.", 3 SW (power) "The SW pin is the output of the internal power switch. Connect this pin to the inductor, catch diode and boost capacitor.", 4 VIN (power) "The VIN pin supplies current to internal regulator and to the internal power switch. This pin must be locally bypassed.", 5 RUN/SS (in) "If the shutdown feature is not used, tie this pin to the VIN pin. RUN/SS also provides a soft-start function; see the Applications Information section.", 6 SYNC (in) "This is the external clock synchronization input. Ground this pin for low ripple Burst Mode operation at low output loads. Tie to a clock source for synchronization. Clock edges should have rise and fall times faster than (See Datasheet)", 7 PG (oc) "The PG pin is the open collector output of an internal comparator. PG remains low until the FB pin is within 9% of the final regulation voltage. PG output is valid when VIN is above 3.6V and RUN/SS is high.", 8 FB (in) "Connect the feedback resistor divider tap to this pin.", 9 VC "The VC pin is the output of the internal error amplifier. The voltage on this pin controls the peak switch current. Tie an RC network from this pin to ground to compensate the control loop.", 10 RT "Oscillator Resistor Input. Connecting a resistor to ground from this pin sets the switching frequency.", 11 EP (power) "Ground. The Exposed Pad must be soldered to PCB."

## LT3680IDD#TRPBF
designator U?
3.5 A, 2.4 MHz Step-Down Switching Regulator with 75 uA Quiescent Current, 10-pin SON (DD-10), -40 to 125 degC, Pb-Free, Tape and Reel; Manufacturer: Linear Technology; PartNumber: LT3680IDD#TRPBF; Frequency Adjust Range: 200kHz - 2.4MHz; Number of Outputs: 1; DatasheetVersion: Rev. B; PackageVersion: Rev. C, 06/2010; PackageReference: DD-10; PackageDescription: 10-Pin Plastic DFN, Body 3 x 3 mm, Pitch 0.5 mm; Supplier 1: Digi-Key; Supplier Part Number 1: LT3680IDD#TRPBF-ND; Supplier 2: Newark; Supplier Part Number 2: 57M8547; Packing: Tape and Reel; RoHS: TRUE; Mounting Technology: Surface Mount; Code_JEDEC: MO-229; ComponentLink1Description: Manufacturer URL; ComponentLink1URL: http://www.linear.com/; ComponentLink2Description: Datasheet; ComponentLink2URL: http://cds.linear.com/docs/en/datasheet/3680fb.pdf; ComponentLink3Description: Package Specification; ComponentLink3URL: http://cds.linear.com/docs/en/packaging/DFN_10_05-08-1699.pdf
footprint LT-DD-10_V (SON, 10-Leads, Body 3x3mm, Pitch 0.5mm, Thermal Pad 2.38x1.65mm)
pins: 1 BD (power) "This pin connects to the anode of the boost Schottky diode. BD also supplies current to the internal regulator.", 2 BOOST "This pin is used to provide a drive voltage, higher than the input voltage, to the internal bipolar NPN power switch.", 3 SW (power) "The SW pin is the output of the internal power switch. Connect this pin to the inductor, catch diode and boost capacitor.", 4 VIN (power) "The VIN pin supplies current to internal regulator and to the internal power switch. This pin must be locally bypassed.", 5 RUN/SS (in) "If the shutdown feature is not used, tie this pin to the VIN pin. RUN/SS also provides a soft-start function; see the Applications Information section.", 6 SYNC (in) "This is the external clock synchronization input. Ground this pin for low ripple Burst Mode operation at low output loads. Tie to a clock source for synchronization. Clock edges should have rise and fall times faster than (See Datasheet)", 7 PG (oc) "The PG pin is the open collector output of an internal comparator. PG remains low until the FB pin is within 9% of the final regulation voltage. PG output is valid when VIN is above 3.6V and RUN/SS is high.", 8 FB (in) "Connect the feedback resistor divider tap to this pin.", 9 VC "The VC pin is the output of the internal error amplifier. The voltage on this pin controls the peak switch current. Tie an RC network from this pin to ground to compensate the control loop.", 10 RT "Oscillator Resistor Input. Connecting a resistor to ground from this pin sets the switching frequency.", 11 EP (power) "Ground. The Exposed Pad must be soldered to PCB."

## LT3680IMSE#PBF
designator U?
3.5 A, 2.4 MHz Step-Down Switching Regulator with 75 uA Quiescent Current, 10-pin SOP (MSE-10-EDP), -40 to 125 degC, Pb-Free; Manufacturer: Linear Technology; PartNumber: LT3680IMSE#PBF; Frequency Adjust Range: 200kHz - 2.4MHz; Number of Outputs: 1; DatasheetVersion: Rev. B; PackageVersion: Rev. C, 08/2009; PackageReference: MSE-10; PackageDescription: 10-Pin Plastic MSOP, Exposed Die Pad, Body 3 x 3 mm, Pitch 0.5 mm; Supplier 1: Digi-Key; Supplier Part Number 1: LT3680IMSE#PBF-ND; Supplier 2: Farnell; Supplier Part Number 2: 1432699; Supplier 3: Newark; Supplier Part Number 3: 57M8548; RoHS: TRUE; Mounting Technology: Surface Mount; ComponentLink1Description: Manufacturer URL; ComponentLink1URL: http://www.linear.com/; ComponentLink2Description: Datasheet; ComponentLink2URL: http://cds.linear.com/docs/en/datasheet/3680fb.pdf; ComponentLink3Description: Package Specification; ComponentLink3URL: http://cds.linear.com/docs/en/datasheet/3481fc.pdf
footprint LT-MSE-10-EDP-2060x1830TP_N (SOP, 10-Leads, Body 3.1x3.1mm, Pitch 0.5mm, Thermal Pad 2.17x1.94mm, IPC Medium Density)
footprint LT-MSE-10-EDP-2060x1830TP_L (SOP, 10-Leads, Body 3.1x3.1mm, Pitch 0.5mm, Thermal Pad 2.17x1.94mm, IPC High Density)
footprint LT-MSE-10-EDP-2060x1830TP_M (SOP, 10-Leads, Body 3.1x3.1mm, Pitch 0.5mm, Thermal Pad 2.17x1.94mm, IPC Low Density)
pins: 1 BD (power) "This pin connects to the anode of the boost Schottky diode. BD also supplies current to the internal regulator.", 2 BOOST "This pin is used to provide a drive voltage, higher than the input voltage, to the internal bipolar NPN power switch.", 3 SW (power) "The SW pin is the output of the internal power switch. Connect this pin to the inductor, catch diode and boost capacitor.", 4 VIN (power) "The VIN pin supplies current to internal regulator and to the internal power switch. This pin must be locally bypassed.", 5 RUN/SS (in) "If the shutdown feature is not used, tie this pin to the VIN pin. RUN/SS also provides a soft-start function; see the Applications Information section.", 6 SYNC (in) "This is the external clock synchronization input. Ground this pin for low ripple Burst Mode operation at low output loads. Tie to a clock source for synchronization. Clock edges should have rise and fall times faster than (See Datasheet)", 7 PG (oc) "The PG pin is the open collector output of an internal comparator. PG remains low until the FB pin is within 9% of the final regulation voltage. PG output is valid when VIN is above 3.6V and RUN/SS is high.", 8 FB (in) "Connect the feedback resistor divider tap to this pin.", 9 VC "The VC pin is the output of the internal error amplifier. The voltage on this pin controls the peak switch current. Tie an RC network from this pin to ground to compensate the control loop.", 10 RT "Oscillator Resistor Input. Connecting a resistor to ground from this pin sets the switching frequency.", 11 EP (power) "Ground. The Exposed Pad must be soldered to PCB."

## LT3680IMSE#TRPBF
designator U?
3.5 A, 2.4 MHz Step-Down Switching Regulator with 75 uA Quiescent Current, 10-pin SOP (MSE-10-EDP), -40 to 125 degC, Pb-Free, Tape and Reel; Manufacturer: Linear Technology; PartNumber: LT3680IMSE#TRPBF; Frequency Adjust Range: 200kHz - 2.4MHz; Number of Outputs: 1; DatasheetVersion: Rev. B; PackageVersion: Rev. C, 08/2009; PackageReference: MSE-10; PackageDescription: 10-Pin Plastic MSOP, Exposed Die Pad, Body 3 x 3 mm, Pitch 0.5 mm; Supplier 1: Digi-Key; Supplier Part Number 1: LT3680IMSE#TRPBF-ND; Supplier 2: Newark; Supplier Part Number 2: 57M8549; Packing: Tape and Reel; RoHS: TRUE; Mounting Technology: Surface Mount; ComponentLink1Description: Manufacturer URL; ComponentLink1URL: http://www.linear.com/; ComponentLink2Description: Datasheet; ComponentLink2URL: http://cds.linear.com/docs/en/datasheet/3680fb.pdf; ComponentLink3Description: Package Specification; ComponentLink3URL: http://cds.linear.com/docs/en/datasheet/3481fc.pdf
footprint LT-MSE-10-EDP-2060x1830TP_N (SOP, 10-Leads, Body 3.1x3.1mm, Pitch 0.5mm, Thermal Pad 2.17x1.94mm, IPC Medium Density)
footprint LT-MSE-10-EDP-2060x1830TP_L (SOP, 10-Leads, Body 3.1x3.1mm, Pitch 0.5mm, Thermal Pad 2.17x1.94mm, IPC High Density)
footprint LT-MSE-10-EDP-2060x1830TP_M (SOP, 10-Leads, Body 3.1x3.1mm, Pitch 0.5mm, Thermal Pad 2.17x1.94mm, IPC Low Density)
pins: 1 BD (power) "This pin connects to the anode of the boost Schottky diode. BD also supplies current to the internal regulator.", 2 BOOST "This pin is used to provide a drive voltage, higher than the input voltage, to the internal bipolar NPN power switch.", 3 SW (power) "The SW pin is the output of the internal power switch. Connect this pin to the inductor, catch diode and boost capacitor.", 4 VIN (power) "The VIN pin supplies current to internal regulator and to the internal power switch. This pin must be locally bypassed.", 5 RUN/SS (in) "If the shutdown feature is not used, tie this pin to the VIN pin. RUN/SS also provides a soft-start function; see the Applications Information section.", 6 SYNC (in) "This is the external clock synchronization input. Ground this pin for low ripple Burst Mode operation at low output loads. Tie to a clock source for synchronization. Clock edges should have rise and fall times faster than (See Datasheet)", 7 PG (oc) "The PG pin is the open collector output of an internal comparator. PG remains low until the FB pin is within 9% of the final regulation voltage. PG output is valid when VIN is above 3.6V and RUN/SS is high.", 8 FB (in) "Connect the feedback resistor divider tap to this pin.", 9 VC "The VC pin is the output of the internal error amplifier. The voltage on this pin controls the peak switch current. Tie an RC network from this pin to ground to compensate the control loop.", 10 RT "Oscillator Resistor Input. Connecting a resistor to ground from this pin sets the switching frequency.", 11 EP (power) "Ground. The Exposed Pad must be soldered to PCB."